# EAGLE library part 418317170910 (library Eagle_Wuerth_Elektronik_Switch)
WS-PT 2.54 mm piano type compact THT Dip Switch with flat actuator, 10 Pole
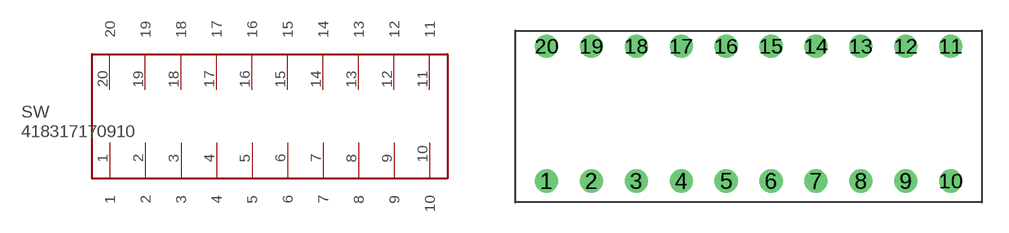
[diagram p106: symbol with the pads of 418317170910; footprint 418317170910]

Designator prefix SW

## 418317170910  [418317170910]
1  1
2  2
3  3
4  4
5  5
6  6
7  7
8  8
9  9
10  10
11  11
12  12
13  13
14  14
15  15
16  16
17  17
18  18
19  19
20  20

## Footprint 418317170910 (pad centres in mm)
WS-PT 2.54 mm piano type compact THT Dip Switch with flat actuator, 10 Pole
drill 0.8: 1 0,-3.81; 2 2.54,-3.81; 3 5.08,-3.81; 4 7.62,-3.81; 5 10.16,-3.81; 6 12.7,-3.81; 7 15.24,-3.81; 8 17.78,-3.81; 9 20.32,-3.81; 10 22.86,-3.81; 11 22.86,3.81; 12 20.32,3.81; 13 17.78,3.81; 14 15.24,3.81; 15 12.7,3.81; 16 10.16,3.81; 17 7.62,3.81; 18 5.08,3.81; 19 2.54,3.81; 20 0,3.81